# EAGLE library part ESP-WROVER-32 (library innove-microcontrollers)
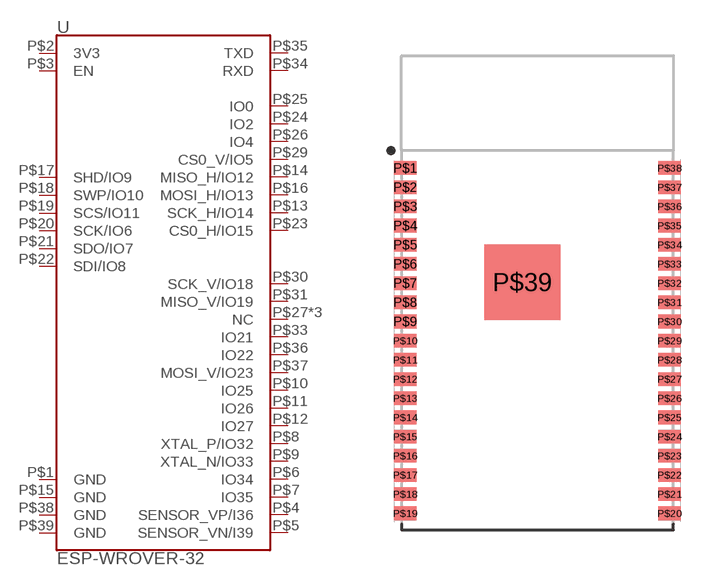
[diagram p4: symbol with the pads of ESP-WROVER-32; footprint ESP-WROVER-32]

Designator prefix U

## ESP-WROVER-32ESP-WROVER-32  [ESP-WROVER-32]
P$1  GND
P$2  3V3
P$3  EN
P$4  SENSOR_VP/I36
P$5  SENSOR_VN/I39
P$6  IO34
P$7  IO35
P$8  XTAL_P/IO32
P$9  XTAL_N/IO33
P$10  IO25
P$11  IO26
P$12  IO27
P$13  SCK_H/IO14
P$14  MISO_H/IO12
P$15  GND
P$16  MOSI_H/IO13
P$17  SHD/IO9
P$18  SWP/IO10
P$19  SCS/IO11
P$20  SCK/IO6
P$21  SDO/IO7
P$22  SDI/IO8
P$23  CS0_H/IO15
P$24  IO2
P$25  IO0
P$26  IO4
P$27  NC
P$28  NC
P$29  CS0_V/IO5
P$30  SCK_V/IO18
P$31  MISO_V/IO19
P$32  NC
P$33  IO21
P$34  RXD
P$35  TXD
P$36  IO22
P$37  MOSI_V/IO23
P$38  GND
P$39  GND

## Footprint ESP-WROVER-32 (pad centres in mm)
smd 1.5 x 0.9: P$1 0.25,-7.44; P$2 0.25,-8.71; P$3 0.25,-9.98; P$4 0.25,-11.25; P$5 0.25,-12.52; P$6 0.25,-13.79; P$7 0.25,-15.06; P$8 0.25,-16.33; P$9 0.25,-17.6; P$10 0.25,-18.87; P$11 0.25,-20.14; P$12 0.25,-21.41; P$13 0.25,-22.68; P$14 0.25,-23.95; P$15 0.25,-25.22; P$16 0.25,-26.49; P$17 0.25,-27.76; P$18 0.25,-29.03; P$19 0.25,-30.3; P$20 17.75,-30.3; P$21 17.75,-29.03; P$22 17.75,-27.76; P$23 17.75,-26.49; P$24 17.75,-25.22; P$25 17.75,-23.95; P$26 17.75,-22.68; P$27 17.75,-21.41; P$28 17.75,-20.14; P$29 17.75,-18.87; P$30 17.75,-17.6; P$31 17.75,-16.33; P$32 17.75,-15.06; P$33 17.75,-13.79; P$34 17.75,-12.52; P$35 17.75,-11.25; P$36 17.75,-9.98; P$37 17.75,-8.71; P$38 17.75,-7.44
smd 5 x 5: P$39 8,-15